# EAGLE library part DIP2P-4-* (library Switch)
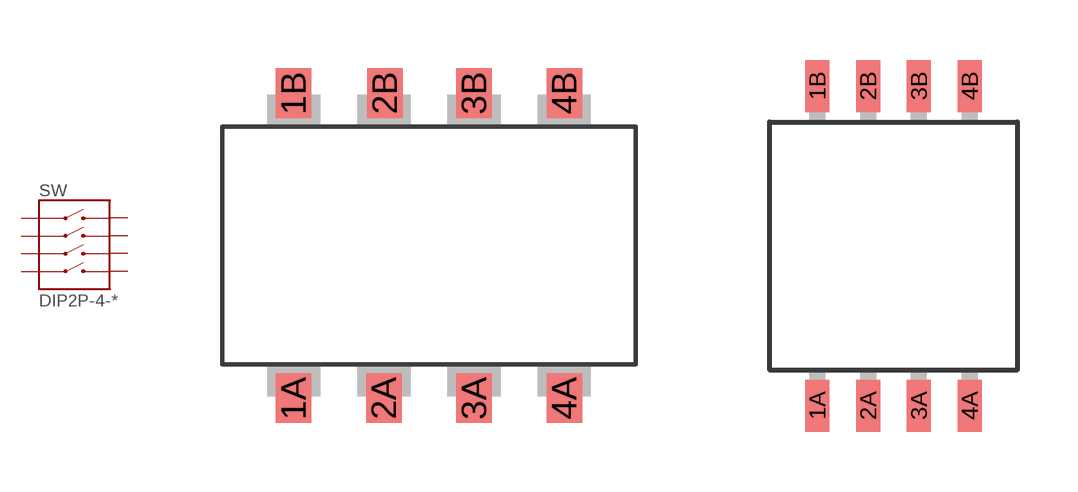
[diagram p1: symbol with the pads of DIP2P-4-SMT2.54; footprints DIP2P-4-SMT2.54, DIP2P-4-SMT1.27]

Designator prefix SW

## DIP2P-4-SMT2.54  [DIP2P-4-SMT2.54]
1A  1A  pas
1B  1B  pas
2A  2A  pas
2B  2B  pas
3A  3A  pas
3B  3B  pas
4A  4A  pas
4B  4B  pas

## DIP2P-4-SMT1.27  [DIP2P-4-SMT1.27]
Pads as for DIP2P-4-SMT2.54

## Footprint DIP2P-4-SMT2.54 (pad centres in mm)
smd 1 x 1.4: 1A -3.81,-4.3; 1B -3.81,4.3; 2A -1.27,-4.3; 2B -1.243,4.3; 3A 1.27,-4.3; 3B 1.27,4.3; 4A 3.81,-4.3; 4B 3.81,4.3

## Footprint DIP2P-4-SMT1.27 (pad centres in mm)
smd 0.6 x 1.3: 1A -1.905,-4; 1B -1.905,4; 2A -0.635,-4; 2B -0.635,4; 3A 0.635,-4; 3B 0.635,4; 4A 1.905,-4; 4B 1.905,4